# Altium schematic symbol library LD1085.Schlib: 1 symbol
Pins are listed as number, name and electrical type; pins without a type are passive.

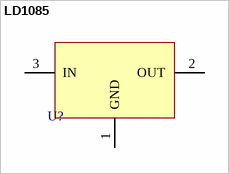
[diagram p0: symbol LD1085]

## LD1085
designator U?  (value not drawn)
LD1085 Low Dropout Regulator
pins: 1 GND, 2 OUT, 3 IN